# Altium footprint library CL31A226KOCLFNC.PcbLib: 1 footprints
Each footprint in its own frame and in the unit in brackets; x right, y up, seen from the top. Pads: shape width x height; smd on the part's side, far side on the other; paste and mask are expansions set on the pad; w line width, h text height; cw(c..) or ccw(c..) is an arc to the next point about the centre after c.
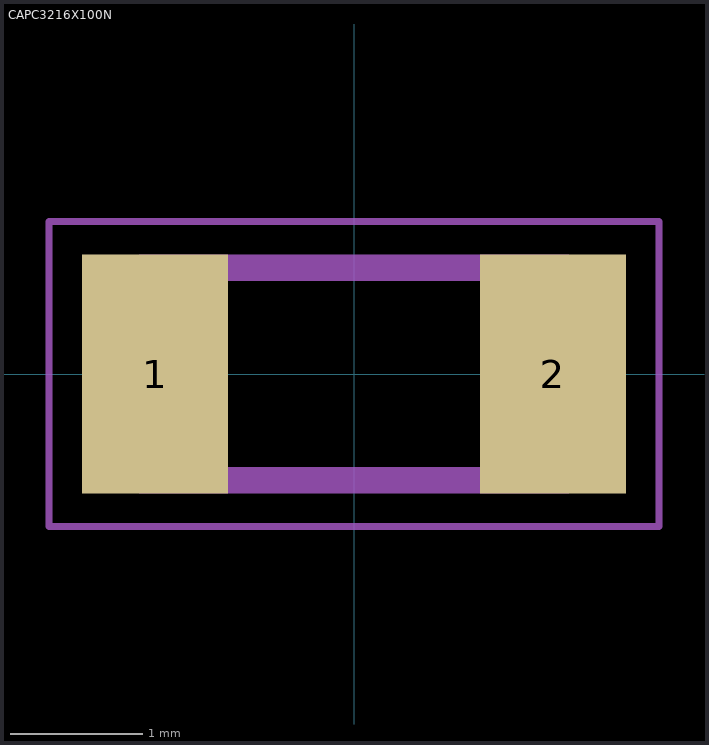
[diagram p0: the footprint, top view; thin cyan lines are the x and y axes]

## CAPC3216X100N [mm]
pads (2):
  rect 1.1x1.8 smd: 1(-1.5,0) 2(1.5,0)
Mechanical 1:
  region: 1.101,0.8 1.6,0.8 1.6,-0.8 1.101,-0.8
  region: -1.606,0.8 -1.1,0.8 -1.1,-0.803 -1.606,-0.803
  lines w0.051: -2.3,-1.15 -2.3,1.15 2.3,1.15 2.3,-1.15 -2.3,-1.15
  lines w0.127: -1.6,-0.8 -1.6,0.8 ; 1.6,-0.8 1.6,0.8
  lines w0.2: -1.6,-0.8 1.6,-0.8 ; -1.6,0.8 1.6,0.8